# Altium schematic symbol library DMP_Schlib_SEM_MAIN_BOARD.SchLib: 39 symbols
Pins are listed as number, name and electrical type; pins without a type are passive.

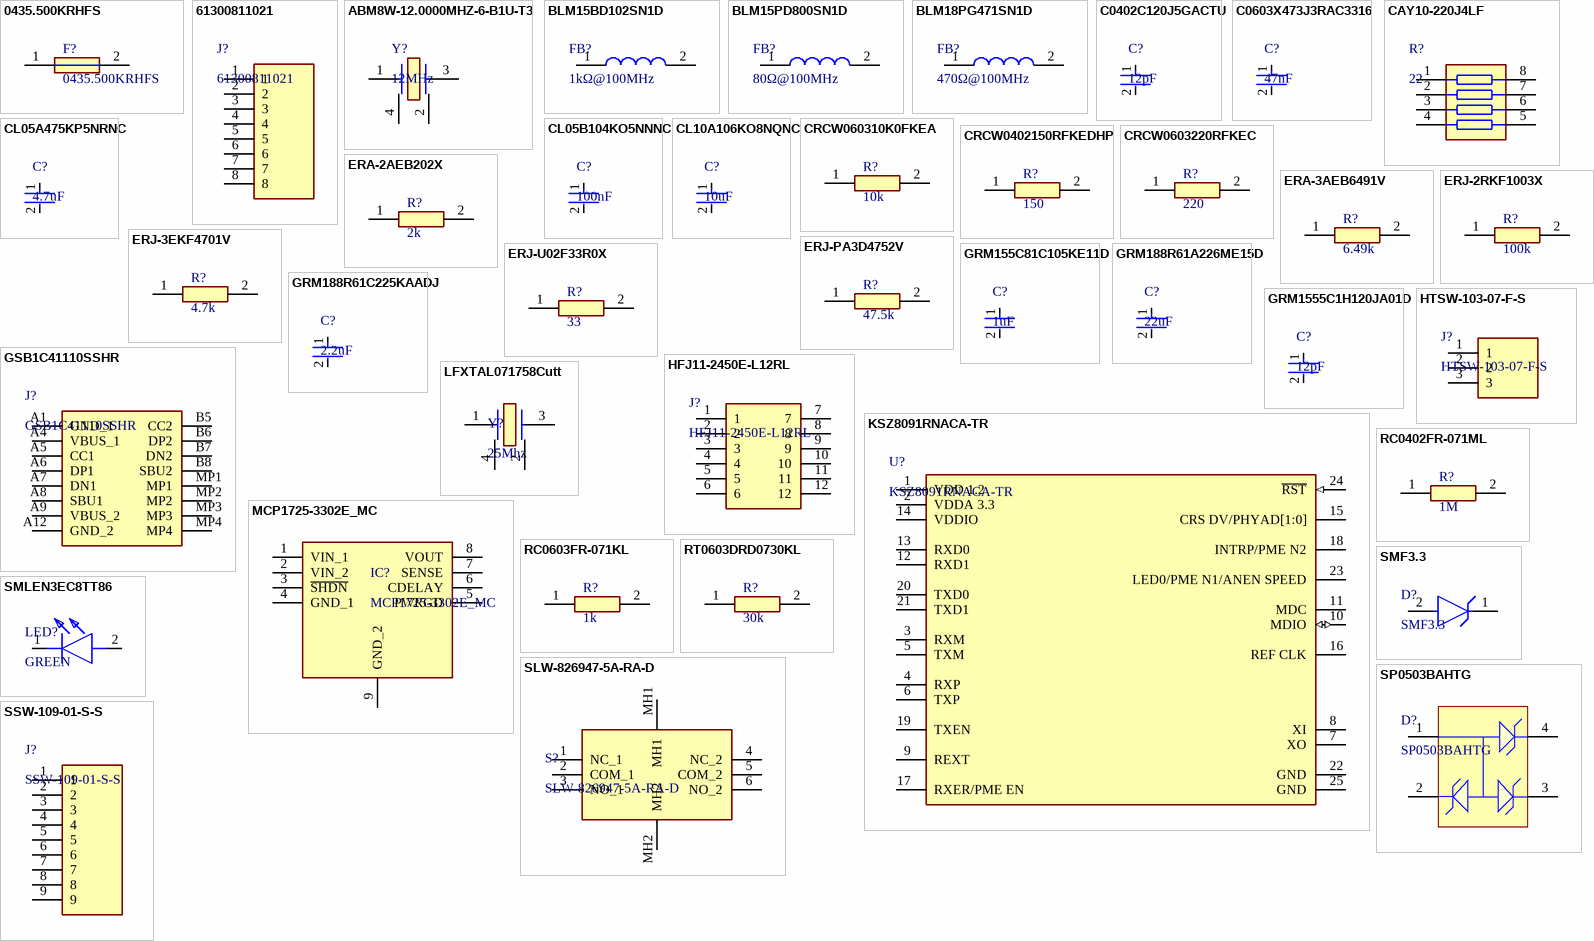
[diagram p0: symbols 0435.500KRHFS to SSW-109-01-S-S]

## 0435.500KRHFS
designator F?
Fuse 0435.500KRHFS
footprint 0435.500KRHFS
pins: 1, 2

## 61300811021
designator J?
Programing connector 61300811021
footprint 61300811021
pins: 1, 2, 3, 4, 5, 6, 7, 8

## ABM8W-12.0000MHZ-6-B1U-T3
designator Y?, comment 12MHz
Crystal ABM8W-12.0000MHZ-6-B1U-T3
footprint ABM8W-12.0000MHZ-6-B1U-T3
pins: 1, 2, 3, 4

## BLM15BD102SN1D
designator FB?, comment 1kΩ@100MHz
Chip Ferrite Bead BLM15BD102SN1D
footprint BLM15BD102SN1D
pins: 1, 2

## BLM15PD800SN1D
designator FB?, comment 80Ω@100MHz
Chip Ferrite Bead BLM15PD800SN1D
footprint BLM15PD800SN1D
pins: 1, 2

## BLM18PG471SN1D
designator FB?, comment 470Ω@100MHz
Chip Ferrite Bead, 0603, 470Ω @ 100MHz, 0.2Ω, 25%, 1A / BLM18PG471SN1D
footprint BLM18PG471SN1D
pins: 1, 2

## C0402C120J5GACTU
designator C?, comment 12pF
CAP CER 12PF 50V C0G/NP0 0402
footprint C0402C120J5GACTU
pins: 1, 2

## C0603X473J3RAC3316
designator C?, comment 47nF
Capacitor C0603X473J3RAC3316
footprint C0603X473J3RAC3316
pins: 1, 2

## CAY10-220J4LF
designator R?, comment 22
Resistor array CAY10-220J4LF
footprint CAY10-220J4LF
pins: 1, 2, 3, 4, 5, 6, 7, 8

## CL05A475KP5NRNC
designator C?, comment 4.7uF
Capacitor CL05A475KP5NRNC
footprint CL05A475KP5NRNC
pins: 1, 2

## CL05B104KO5NNNC
designator C?, comment 100nF
Capacitor CL05B104KO5NNNC
footprint CL05B104KO5NNNC
pins: 1, 2

## CL10A106KO8NQNC
designator C?, comment 10uF
Capacitor CL10A106KO8NQNC
footprint CL10A106KO8NQNC
pins: 1, 2

## CRCW060310K0FKEA
designator R?, comment 10k
Resistor CRCW060310K0FKEA
footprint CRCW060310K0FKEA
pins: 1, 2

## CRCW0402150RFKEDHP
designator R?, comment 150
Resistor CRCW0402150RFKEDHP
footprint CRCW0402150RFKEDHP
pins: 1, 2

## CRCW0603220RFKEC
designator R?, comment 220
Resistor CRCW0603220RFKEC
footprint CRCW0603220RFKEC
pins: 1, 2

## ERA-2AEB202X
designator R?, comment 2k
Resistor
footprint ERA-2AEB202X
pins: 1, 2

## ERA-3AEB6491V
designator R?, comment 6.49k
Resistor ERA-3AEB6491V
footprint ERA-3AEB6491V
pins: 1, 2

## ERJ-2RKF1003X
designator R?, comment 100k
Resistor
footprint ERJ-2RKF1003X
pins: 1, 2

## ERJ-3EKF4701V
designator R?, comment 4.7k
Resistor ERJ-3EKF4701V
footprint ERJ-3EKF4701V
pins: 1, 2

## ERJ-PA3D4752V
designator R?, comment 47.5k
Resistor ERJ-PA3D4752V
footprint ERJ-PA3D4752V
pins: 1, 2

## ERJ-U02F33R0X
designator R?, comment 33
Resistor
footprint ERJ-U02F33R0X
pins: 1, 2

## GRM155C81C105KE11D
designator C?, comment 1uF
Capacitor GRM155C81C105KE11D
footprint GRM155C81C105KE11D
pins: 1, 2

## GRM188R61A226ME15D
designator C?, comment 22uF
Capacitor GRM188R61A226ME15D
footprint GRM188R61A226ME15D
pins: 1, 2

## GRM188R61C225KAADJ
designator C?, comment 2.2uF
Capacitor GRM188R61C225KAADJ
footprint GRM188R61C225KAADJ
pins: 1, 2

## GRM1555C1H120JA01D
designator C?, comment 12pF
Capacitor GRM1555C1H120JA01D
footprint GRM1555C1H120JA01D
pins: 1, 2

## GSB1C41110SSHR
designator J?
USB-C Connector
footprint GSB1C41110SSHR
pins: A1 GND_1, A4 VBUS_1, A5 CC1, A6 DP1, A7 DN1, A8 SBU1, A9 VBUS_2, A12 GND_2, B5 CC2, B6 DP2, B7 DN2, B8 SBU2, MP1, MP2, MP3, MP4

## HFJ11-2450E-L12RL
designator J?
RJ-45 Connector
footprint HFJ11-2450E-L12RL
pins: 1, 2, 3, 4, 5, 6, 7, 8, 9, 10, 11, 12

## HTSW-103-07-F-S
designator J?
Headers HTSW-103-07-F-S
footprint HTSW-103-07-F-S
pins: 1, 2, 3

## KSZ8091RNACA-TR
designator U?
IC TRANSCIEVER
footprint KSZ8091RNACA-TR
pins: 1 VDD 1.2 (power), 2 VDDA 3.3 (power), 3 RXM, 4 RXP, 5 TXM, 6 TXP, 7 XO, 8 XI, 9 REXT, 10 MDIO (io), 11 MDC, 12 RXD1, 13 RXD0, 14 VDDIO, 15 CRS DV/PHYAD[1:0], 16 REF CLK, 17 RXER/PME EN, 18 INTRP/PME N2, 19 TXEN, 20 TXD0, 21 TXD1, 22 GND (power), 23 LED0/PME N1/ANEN SPEED, 24 ~{RST} (in), 25 GND (power)

## LFXTAL071758Cutt
designator Y?, comment 25Mhz
Crystal LFXTAL071758Cutt
footprint LFXTAL071758Cutt
pins: 1, 2, 3, 4

## MCP1725-3302E_MC
designator IC?
Linear voltage regulator  MCP1725-3302E_MC
footprint MCP1725-3302E_MC
pins: 1 VIN_1, 2 VIN_2, 3 ~{SHDN}, 4 GND_1, 5 PWRGD, 6 CDELAY, 7 SENSE, 8 VOUT, 9 GND_2

## RC0402FR-071ML
designator R?, comment 1M
Resistor RC0402FR-071ML
footprint RC0402FR-071ML
pins: 1, 2

## RC0603FR-071KL
designator R?, comment 1k
Resistor RC0603FR-071KL
footprint RC0603FR-071KL
pins: 1, 2

## RT0603DRD0730KL
designator R?, comment 30k
Resistor RT0603DRD0730KL
footprint RT0603DRD0730KL
pins: 1, 2

## SLW-826947-5A-RA-D
designator S?
Switch SLW-826947-5A-RA-D
footprint SLW-826947-5A-RA-D
pins: 1 NC_1, 2 COM_1, 3 NO_1, 4 NC_2, 5 COM_2, 6 NO_2, MH1, MH2

## SMF3.3
designator D?
TVS diode SMF3.3
footprint SMF3.3
pins: 1 C, 2 A

## SMLEN3EC8TT86
designator LED?, comment GREEN
GREEN LED Diode
footprint SMLEN3EC8TT86
pins: 1 K, 2 A

## SP0503BAHTG
designator D?
TVS Diodes SP0503BAHTG
footprint SP0503BAHTG
pins: 1, 2, 3, 4

## SSW-109-01-S-S
designator J?
Connector SSW-109-01-S-S
footprint SSW-109-01-S-S
pins: 1, 2, 3, 4, 5, 6, 7, 8, 9